# Altium schematic symbol library TI_Sch.SchLib: 4 symbols
Pins are listed as number, name and electrical type; pins without a type are passive.

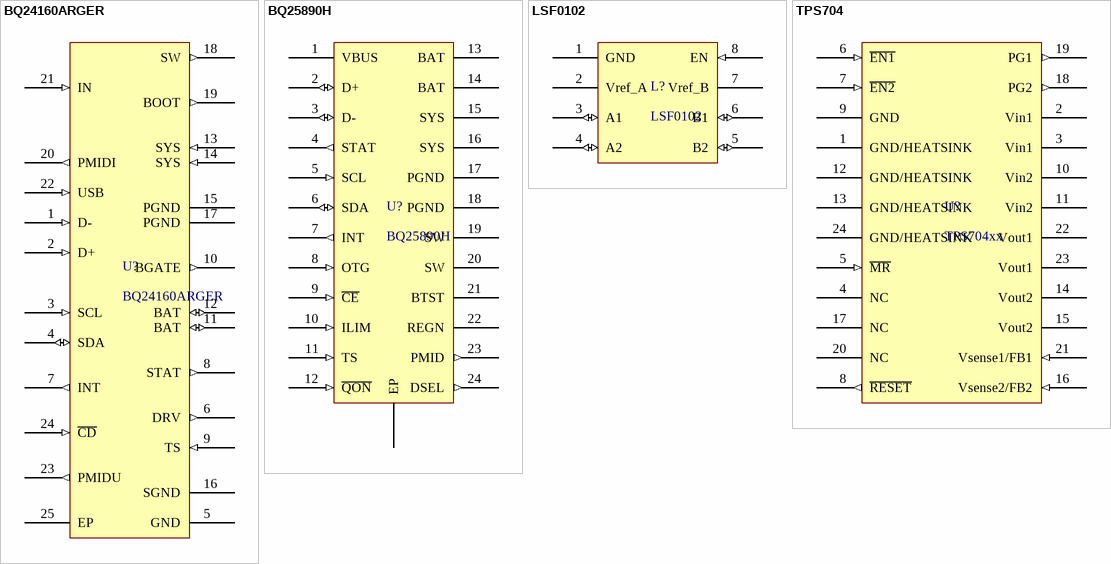
[diagram p0: symbols BQ24160ARGER to TPS704]

## BQ24160ARGER
designator U?
footprint RGE24-2700X2700TP (QFN, 24-Leads, Body 4x4mm, Pitch 0.5mm, Thermal Pad 2.7x2.7mm, TI Recommended)
pins: 1 D- (in), 2 D+ (in), 3 SCL (in), 4 SDA (io), 5 GND (power), 6 DRV (out), 7 INT (out), 8 STAT (out), 9 TS (in), 10 BGATE (out), 11 BAT (io), 12 BAT (io), 13 SYS (in), 14 SYS (in), 15 PGND (power), 16 SGND (power), 17 PGND (power), 18 SW (out), 19 BOOT (out), 20 PMIDI (out), 21 IN (in), 22 USB (in), 23 PMIDU (out), 24 ~{CD} (in), 25 EP (power)

## BQ25890H
designator U?
I2C Controlled 5A Single Cell with NVDC Power Path Management
footprint RGE24-2700X2700TP (QFN, 24-Leads, Body 4x4mm, Pitch 0.5mm, Thermal Pad 2.7x2.7mm, TI Recommended)
pins: 1 VBUS (power), 2 D+ (io), 3 D- (io), 4 STAT (out), 5 SCL (in), 6 SDA (io), 7 INT (out), 8 OTG (in), 9 ~{CE} (in), 10 ILIM (in), 11 TS (in), 12 ~{QON} (in), 13 BAT (power), 14 BAT (power), 15 SYS (power), 16 SYS (power), 17 PGND (power), 18 PGND (power), 19 SW (power), 20 SW (power), 21 BTST (power), 22 REGN (power), 23 PMID (out), 24 DSEL (out), 25 EP (power)

## LSF0102
designator L?
footprint DCT0008A_M (SOP, 8-Leads, Body 2.9x3.2mm, Pitch 0.65mm, IPC Low Density)
pins: 1 GND (power), 2 Vref_A, 3 A1 (io), 4 A2 (io), 5 B2 (io), 6 B1 (io), 7 Vref_B, 8 EN (in)

## TPS704
designator U?, comment TPS704xx
DUAL-OUTPUT, LOW DROPOUT VOLTAGE REGULATORS WITH INTEGRATED SVS FOR SPLIT VOLTAGE SYSTEMS
footprint PWP0024A_M (SOP, 24-Leads, Body 4.54x7.9mm, Pitch 0.65mm, Thermal Pad 4.68x2.4mm, IPC Low Density)
pins: 1 GND/HEATSINK (power), 2 Vin1 (power), 3 Vin1 (power), 4 NC, 5 ~{MR} (in), 6 ~{EN1} (in), 7 ~{EN2} (in), 8 ~{RESET} (out), 9 GND (power), 10 Vin2 (power), 11 Vin2 (power), 12 GND/HEATSINK (power), 13 GND/HEATSINK (power), 14 Vout2 (power), 15 Vout2 (power), 16 Vsense2/FB2 (in), 17 NC, 18 PG2 (out), 19 PG1 (out), 20 NC, 21 Vsense1/FB1 (in), 22 Vout1 (power), 23 Vout1 (power), 24 GND/HEATSINK (power)